# EAGLE library part LM4780TA (library mru-lib)
National Semiconductor LM4780 Overture Audio Power Amplifier Series TO220 27 Lead Package
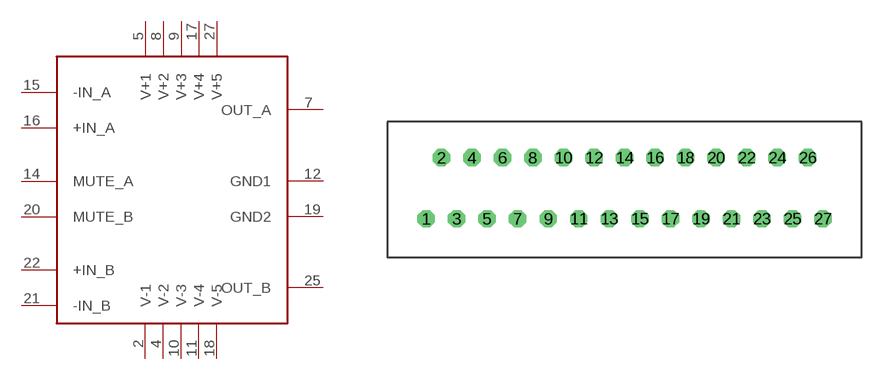
[diagram p0: symbol with the pads of TO-220_27; footprint TO-220_27]

Designator prefix -

## LM4780TA  [TO-220_27]
2  V-1  sup
4  V-2  sup
5  V+1  sup
7  OUT_A  out
8  V+2  sup
9  V+3  sup
10  V-3  sup
11  V-4  sup
12  GND1  pwr
14  MUTE_A  in
15  -IN_A  in
16  +IN_A  in
17  V+4  sup
18  V-5  sup
19  GND2  pwr
20  MUTE_B  in
21  -IN_B  in
22  +IN_B  in
25  OUT_B  out
27  V+5  sup

## Footprint TO-220_27 (pad centres in mm)
TO-220 package with 27 pins TA27A
drill 0.635 octagon: 1 0,0; 2 1.001,4.003; 3 2.002,0; 4 3.002,4.003; 5 4.003,0; 6 5.004,4.003; 7 6.005,0; 8 7.005,4.003; 9 8.006,0; 10 9.007,4.003; 11 10.008,0; 12 11.008,4.003; 13 12.009,0; 14 13.01,4.003; 15 14.011,0; 16 15.011,4.003; 17 16.012,0; 18 17.013,4.003; 19 18.014,0; 20 19.014,4.003; 21 20.015,0; 22 21.016,4.003; 23 22.017,0; 24 23.017,4.003; 25 24.018,0; 26 25.019,4.003; 27 26.015,0